# EAGLE library part AD829JRZ (library cyclops)
High Speed, Low Noise Video Op Amp
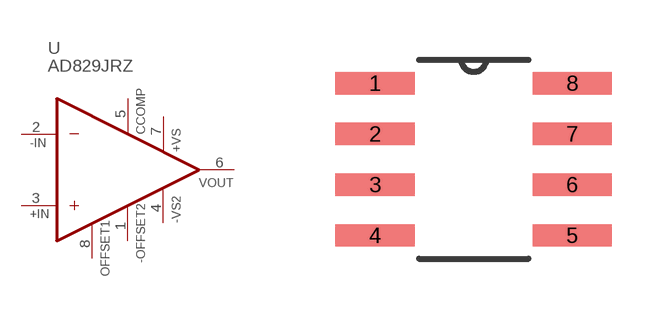
[diagram p11: symbol with the pads of SOIC127P600X175-8N; footprint SOIC127P600X175-8N]

Designator prefix U

## AD829JRZ (MPN: AD829JRZ; OC_FARNELL: 1651321; OC_NEWARK: 19M8894; PACKAGE: SOIC-8; SUPPLIER: Analog Devices)  [SOIC127P600X175-8N]
1  OFS_2  pas
2  -IN  in
3  +IN  in
4  -VS  pwr
5  CCOMP  pas
6  OUTPUT  out
7  +VS  pwr
8  OFS  pas

## Footprint SOIC127P600X175-8N (pad centres in mm)
smd 1.981 x 0.559: 1 -2.464,1.905; 2 -2.464,0.635; 3 -2.464,-0.635; 4 -2.464,-1.905; 5 2.464,-1.905; 6 2.464,-0.635; 7 2.464,0.635; 8 2.464,1.905